# Altium schematic symbol library BSS138.Schlib: 1 symbol
Pins are listed as number, name and electrical type; pins without a type are passive.

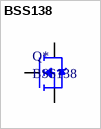
[diagram p0: symbol BSS138]

## BSS138
designator Q*
N Channel 50V 220mA 1.5V @ 1mA 3.5Ω @ 220mA,10V 360mW SOT-23(SOT-23-3) MOSFET RoHS; ComponentLink1Description: LCSC - ON Semiconductor BSS138; ComponentLink1URL: https://lcsc.com/product-detail/MOSFET_ON-Semiconductor-ON-BSS138_C52895.html; LCSC Part #: C52895
footprint SOT23-3
pins: 1 G, 2 S, 3 D